# Altium schematic symbol library RTL8201CL.Schlib: 1 symbol
Pins are listed as number, name and electrical type; pins without a type are passive.

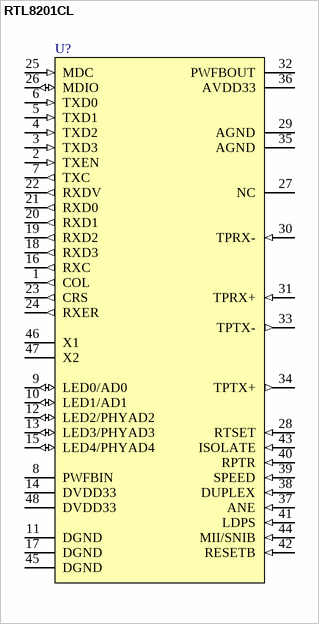
[diagram p0: symbol RTL8201CL]

## RTL8201CL
designator U?
Realtek Ethernet PHY tranceiver
pins: 1 COL (out), 2 TXEN (in), 3 TXD3 (in), 4 TXD2 (in), 5 TXD1 (in), 6 TXD0 (in), 7 TXC (out), 8 PWFBIN (power), 9 LED0/AD0 (io), 10 LED1/AD1 (io), 11 DGND (power), 12 LED2/PHYAD2 (io), 13 LED3/PHYAD3 (io), 14 DVDD33 (power), 15 LED4/PHYAD4 (io), 16 RXC (out), 17 DGND (power), 18 RXD3 (out), 19 RXD2 (out), 20 RXD1 (out), 21 RXD0 (out), 22 RXDV (out), 23 CRS (out), 24 RXER (out), 25 MDC (in), 26 MDIO (io), 27 NC, 28 RTSET (in), 29 AGND (power), 30 TPRX- (in), 31 TPRX+ (in), 32 PWFBOUT (power), 33 TPTX- (out), 34 TPTX+ (out), 35 AGND (power), 36 AVDD33 (power), 37 ANE (in), 38 DUPLEX (in), 39 SPEED (in), 40 RPTR (in), 41 LDPS (in), 42 RESETB (in), 43 ISOLATE (in), 44 MII/SNIB (in), 45 DGND (power), 46 X1, 47 X2, 48 DVDD33 (power)